# Altium integrated library 3.3uF_kemet_x7R_C1812C335K1RAC7800.IntLib: 1 symbol
Pins are listed as number, name and electrical type; pins without a type are passive.

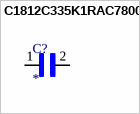
[diagram p0: symbol C1812C335K1RAC7800]

## C1812C335K1RAC7800
designator C?
MP: C1812C335K1RAC7800; Package: None; Price: None; Value: *; Availability: Unavailable
footprint CAPC4532X210N
pins: 1, 2